# Altium footprint library Robsense_PCBLib.PcbLib: 82 footprints (part 1 of 6)
Each footprint in its own frame and in the unit in brackets; x right, y up, seen from the top. Pads: shape width x height; smd on the part's side, far side on the other; paste and mask are expansions set on the pad; w line width, h text height; cw(c..) or ccw(c..) is an arc to the next point about the centre after c.
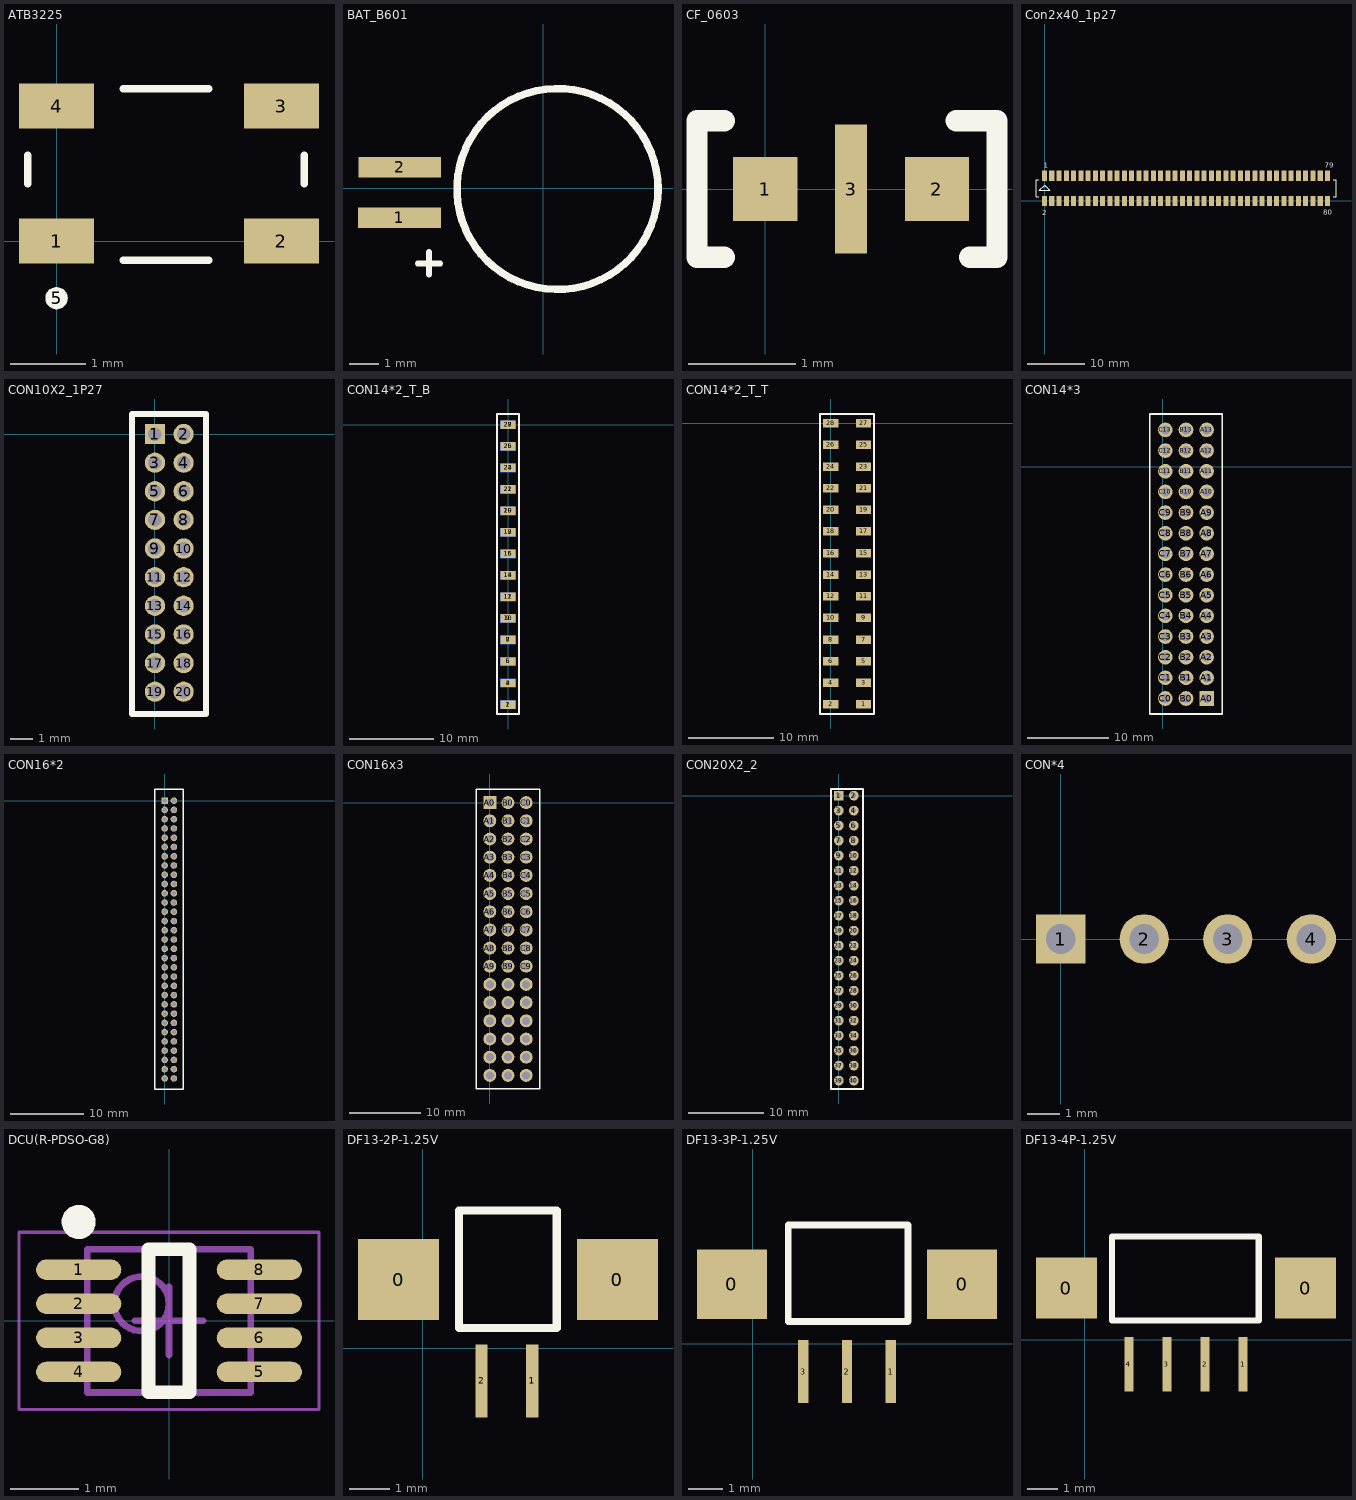
[diagram p0: the footprints below, top view; thin cyan lines are the x and y axes]

## ATB3225 [mm]
pads (5):
  rect 1x0.6 smd mask+0.08: 1(0,0) 2(3,0) 3(3,1.8) 4(0,1.8)
  round 0.3 on Top Overlay: 5(0,-0.762)
Top Overlay:
  lines w0.1: -0.381,0.762 -0.381,1.143 ; 0.889,-0.254 2.032,-0.254 ; 0.889,2.032 2.032,2.032 ; 3.302,0.762 3.302,1.143
3D body: height 1.5, standoff 0.2, extent -0.381,-0.254 3.302,2.032

## BAT_B601 [mm]
pads (2):
  rect 2.8x0.7 smd mask+0.08: 1(-4.862,-1) 2(-4.851,0.711)
Top Overlay:
  circle w0.254: c0.486,-0.025 r3.4
  lines w0.2: -4.242,-2.54 -3.48,-2.54 ; -3.861,-2.921 -3.861,-2.159

## CF_0603 [mm]
pads (3):
  rect 0.6x0.6 smd mask+0.08: 1(0,0) 2(1.6,0)
  rect 0.3x1.2 smd mask+0.08: 3(0.8,0)
Top Overlay:
  lines w0.2: -0.381,-0.635 -0.635,-0.635 -0.635,0.635 -0.381,0.635 ; 1.778,0.635 2.159,0.635 2.159,-0.635 1.905,-0.635

## Con2x40_1p27 [mm]
pads (80):
  rect 0.9x1.8 smd mask+0.08: 1(0,4.4) 2(0,0) 3(1.27,4.4) 4(1.27,0) 5(2.54,4.4) 6(2.54,0) 7(3.81,4.4) 8(3.81,0) 9(5.08,4.4) 10(5.08,0) 11(6.35,4.4) 12(6.35,0) 13(7.62,4.4) 14(7.62,0) 15(8.89,4.4) 16(8.89,0) 17(10.16,4.4) 18(10.16,0) 19(11.43,4.4) 20(11.43,0) 21(12.7,4.4) 22(12.7,0) 23(13.97,4.4) 24(13.97,0) 25(15.24,4.4) 26(15.24,0) 27(16.51,4.4) 28(16.51,0) 29(17.79,4.4) 30(17.78,0) 31(19.05,4.4) 32(19.05,0) 33(20.32,4.4) 34(20.32,0) 35(21.59,4.4) 36(21.59,0) 37(22.86,4.4) 38(22.86,0) 39(24.13,4.4) 40(24.13,0) 41(25.4,4.4) 42(25.4,0) 43(26.67,4.4) 44(26.67,0) 45(27.94,4.4) 46(27.94,0) 47(29.21,4.4) 48(29.21,0) 49(30.48,4.4) 50(30.47,0) 51(31.75,4.4) 52(31.75,0) 53(33.02,4.4) 54(33.02,0) 55(34.29,4.4) 56(34.29,0) 57(35.56,4.4) 58(35.56,0) 59(36.83,4.4) 60(36.83,0) 61(38.1,4.4) 62(38.1,0) 63(39.37,4.4) 64(39.37,0) 65(40.64,4.4) 66(40.64,0) 67(41.91,4.4) 68(41.91,0) 69(43.18,4.4) 70(43.18,0) 71(44.45,4.4) 72(44.45,0) 73(45.72,4.4) 74(45.72,0) 75(46.99,4.4) 76(46.99,0) 77(48.26,4.4) 78(48.26,0) 79(49.53,4.4) 80(49.53,0)
Top Overlay:
  lines w0.15: -1,0.7 -1.5,0.7 -1.5,3.7 -1,3.7 ; 50.53,0.7 51.03,0.7 51.03,3.7 50.53,3.7 ; -0.889,1.905 0.635,1.905 0.889,1.905 0,2.794 -0.889,1.905
  text "79" at 49.022,5.842 h0.89
  text "80" at 48.768,-2.413 h0.89
  text "2" at -0.381,-2.54 h0.89
  text "1" at -0.127,5.842 h0.89

## CON10X2_1P27 [mm]
pads (20):
  rect 0.9x0.9 hole 0.6: 1(0,0)
  round 0.9 hole 0.6: 2(1.27,0) 3(0,-1.27) 4(1.27,-1.27) 5(0,-2.54) 6(1.27,-2.54) 7(0,-3.81) 8(1.27,-3.81) 9(0,-5.08) 10(1.27,-5.08) 11(0,-6.35) 12(1.27,-6.35) 13(0,-7.62) 14(1.27,-7.62) 15(0,-8.89) 16(1.27,-8.89) 17(0,-10.16) 18(1.27,-10.16) 19(0,-11.43) 20(1.27,-11.43)
Top Overlay:
  lines w0.254: -1.016,-12.421 -1.016,0.889 -0.762,0.889 2.032,0.889 2.261,0.889 2.261,-12.421 -1.016,-12.421

## CON14*2_T_B [mm]
pads (28):
  rect 1.8x1 smd: 1(0,-33.02) 3(0,-30.48) 5(0,-27.94) 7(0,-25.4) 9(0,-22.86) 11(0,-20.32) 13(0,-17.78) 15(0,-15.24) 17(0,-12.7) 19(0,-10.16) 21(0,-7.62) 23(0,-5.08) 25(0,-2.54) 27(0,0)
  rect 1.8x1 smd far side: 2(0,-33.02) 4(0,-30.48) 6(0,-27.94) 8(0,-25.4) 10(0,-22.86) 12(0,-20.32) 14(0,-17.78) 16(0,-15.24) 18(0,-12.7) 20(0,-10.16) 22(0,-7.62) 24(0,-5.08) 26(0,-2.54) 28(0,0)
Top Overlay:
  lines w0.254: -1.295,-34.138 1.295,-34.138 1.295,1.27 -1.295,1.27 -1.295,-34.138

## CON14*2_T_T [mm]
pads (28):
  rect 1.8x1 smd: 1(3.835,-33.02) 2(0,-33.02) 3(3.835,-30.48) 4(0,-30.48) 5(3.835,-27.94) 6(0,-27.94) 7(3.835,-25.4) 8(0,-25.4) 9(3.835,-22.86) 10(0,-22.86) 11(3.835,-20.32) 12(0,-20.32) 13(3.835,-17.78) 14(0,-17.78) 15(3.835,-15.24) 16(0,-15.24) 17(3.835,-12.7) 18(0,-12.7) 19(3.835,-10.16) 20(0,-10.16) 21(3.835,-7.62) 22(0,-7.62) 23(3.835,-5.08) 24(0,-5.08) 25(3.835,-2.54) 26(0,-2.54) 27(3.835,0) 28(0,0)
Top Overlay:
  lines w0.254: -1.296,-34.138 5.08,-34.138 5.08,1.092 -1.296,1.092 -1.296,-34.138

## CON14*3 [mm]
pads (42):
  rect 1.8x1.8 hole 1.1 paste+0: A0(5.41,-28.473)
  round 1.8 hole 1.1 paste+0: A1(5.41,-25.933) A2(5.41,-23.393) A3(5.41,-20.853) A4(5.41,-18.313) A5(5.41,-15.773) A6(5.41,-13.233) A7(5.41,-10.693) A8(5.41,-8.153) A9(5.41,-5.613) A10(5.41,-3.073) A11(5.41,-0.533) A12(5.41,2.007) A13(5.41,4.547) B0(2.87,-28.473) B1(2.87,-25.933) B2(2.87,-23.393) B3(2.87,-20.853) B4(2.87,-18.313) B5(2.87,-15.773) B6(2.87,-13.233) B7(2.87,-10.693) B8(2.87,-8.153) B9(2.87,-5.613) B10(2.87,-3.073) B11(2.87,-0.533) B12(2.87,2.007) B13(2.87,4.547) C0(0.33,-28.473) C1(0.33,-25.933) C2(0.33,-23.393) C3(0.33,-20.853) C4(0.33,-18.313) C5(0.33,-15.773) C6(0.33,-13.233) C7(0.33,-10.693) C8(0.33,-8.153) C9(0.33,-5.613) C10(0.33,-3.073) C11(0.33,-0.533) C12(0.33,2.007) C13(0.33,4.547)
Top Overlay:
  lines w0.2: -1.575,-30.378 7.315,-30.378 7.315,6.502 -1.575,6.502 -1.575,-30.378

## CON16*2 [mm]
pads (62):
  rect 0.9x0.9 hole 0.65: A0(0,0)
  round 0.9 hole 0.65: A1(0,-1.27) A2(0,-2.54) A3(0,-3.81) A4(0,-5.08) A5(0,-6.35) A6(0,-7.62) A7(0,-8.89) A8(0,-10.16) A9(0,-11.43) A10(0,-12.7) A11(0,-13.97) A12(0,-15.24) A13(0,-16.51) A14(0,-17.78) A15(0,-19.05) A16(0,-20.32) A17(0,-21.59) A18(0,-22.86) A19(0,-24.13) A20(0,-25.4) A21(0,-26.67) A22(0,-27.94) A23(0,-29.21) A24(0,-30.48) A25(0,-31.75) A26(0,-33.02) A27(0,-34.29) A28(0,-35.56) A29(0,-36.83) A30(0,-38.1) B0(1.27,0) B1(1.27,-1.27) B2(1.27,-2.54) B3(1.27,-3.81) B4(1.27,-5.08) B5(1.27,-6.35) B6(1.27,-7.62) B7(1.27,-8.89) B8(1.27,-10.16) B9(1.27,-11.43) B10(1.27,-12.7) B11(1.27,-13.97) B12(1.27,-15.24) B13(1.27,-16.51) B14(1.27,-17.78) B15(1.27,-19.05) B16(1.27,-20.32) B17(1.27,-21.59) B18(1.27,-22.86) B19(1.27,-24.13) B20(1.27,-25.4) B21(1.27,-26.67) B22(1.27,-27.94) B23(1.27,-29.21) B24(1.27,-30.48) B25(1.27,-31.75) B26(1.27,-33.02) B27(1.27,-34.29) B28(1.27,-35.56) B29(1.27,-36.83) B30(1.27,-38.1)
Top Overlay:
  lines w0.2: -1.372,-39.548 2.565,-39.548 2.565,1.6 -1.372,1.6 -1.372,-39.548

## CON16x3 [mm]
pads (48):
  rect 1.8x1.8 hole 1.1: A0(0,0)
  round 1.8 hole 1.1: A1(0,-2.54) A2(0,-5.08) A3(0,-7.62) A4(0,-10.16) A5(0,-12.7) A6(0,-15.24) A7(0,-17.78) A8(0,-20.32) A9(0,-22.86) A10(0,-25.4) A11(0,-27.94) A12(0,-30.48) A13(0,-33.02) A14(0,-35.56) A15(0,-38.1) B0(2.54,0) B1(2.54,-2.54) B2(2.54,-5.08) B3(2.54,-7.62) B4(2.54,-10.16) B5(2.54,-12.7) B6(2.54,-15.24) B7(2.54,-17.78) B8(2.54,-20.32) B9(2.54,-22.86) B10(2.54,-25.4) B11(2.54,-27.94) B12(2.54,-30.48) B13(2.54,-33.02) B14(2.54,-35.56) B15(2.54,-38.1) C0(5.08,0) C1(5.08,-2.54) C2(5.08,-5.08) C3(5.08,-7.62) C4(5.08,-10.16) C5(5.08,-12.7) C6(5.08,-15.24) C7(5.08,-17.78) C8(5.08,-20.32) C9(5.08,-22.86) C10(5.08,-25.4) C11(5.08,-27.94) C12(5.08,-30.48) C13(5.08,-33.02) C14(5.08,-35.56) C15(5.08,-38.1)
Top Overlay:
  lines w0.2: -1.905,-40.005 6.985,-40.005 6.985,1.905 -1.905,1.905 -1.905,-40.005

## CON20X2_2 [mm]
pads (40):
  rect 1.3x1.3 hole 0.65: 1(0,0)
  round 1.3 hole 0.65: 2(2,0) 3(0,-2) 4(2,-2) 5(0,-4) 6(2,-4) 7(0,-6) 8(2,-6) 9(0,-8) 10(2,-8) 11(0,-10) 12(2,-10) 13(0,-12) 14(2,-12) 15(0,-14) 16(2,-14) 17(0,-16) 18(2,-16) 19(0,-18) 20(2,-18) 21(0,-20) 22(2,-20) 23(0,-22) 24(2,-22) 25(0,-24) 26(2,-24) 27(0,-26) 28(2,-26) 29(0,-28) 30(2,-28) 31(0,-30) 32(2,-30) 33(0,-32) 34(2,-32) 35(0,-34) 36(2,-34) 37(0,-36) 38(2,-36) 39(0,-38) 40(2,-38)
Top Overlay:
  lines w0.254: -1.016,-39.116 -1.016,0.889 -0.762,0.889 2.032,0.889 3.2,0.889 3.2,-39.116 -1.016,-39.116

## CON*4 [mm]
pads (4):
  rect 1.5x1.5 hole 0.9: 1(0,0)
  round 1.5 hole 0.9: 2(2.54,0) 3(5.08,0) 4(7.62,0)

## DCU(R-PDSO-G8) [mm] "TSSOP, 8-Leads, Body 2.00x2.30mm, Pitch 0.50mm, IPC Medium Density"
height 0.9
pads (8):
  oval 1.25x0.3 smd mask+0.08: 1(-1.325,0.75) 2(-1.325,0.25) 3(-1.325,-0.25) 4(-1.325,-0.75) 5(1.325,-0.75) 6(1.325,-0.25) 7(1.325,0.25) 8(1.325,0.75)
Top Overlay:
  circle w0.25: c-1.325,1.45 r0.125
  lines w0.2: -0.3,-1.05 0.3,-1.05 0.3,1.05 -0.3,1.05 -0.3,-1.05
Mechanical 13:
  circle w0.1: c-0.4,0.25 r0.4
  lines w0.1: -1.2,-1.05 1.2,-1.05 1.2,1.05 -1.2,1.05 -1.2,-1.05
Mechanical 15:
  lines w0.05: -2.2,-1.3 2.2,-1.3 2.2,1.3 -2.2,1.3 -2.2,-1.3
  lines w0.1: -0.5,0 0.5,0 ; 0,-0.5 0,0.5
3D body: height 0.9, standoff 0.1, extent -1.2,-1.05 1.2,1.05

## DF13-2P-1.25V [mm]
pads (4):
  rect 2x2 smd mask+0.08: 0(-0.6,1.7) 0(4.8,1.7)
  rect 0.3x1.8 smd mask+0.08: 1(2.7,-0.8) 2(1.45,-0.8)
Top Overlay:
  lines w0.2: 0.889,0.508 0.889,3.4 3.302,3.4 3.302,0.508 0.889,0.508

## DF13-3P-1.25V [mm]
pads (5):
  rect 2x2 smd mask+0.08: 0(-0.6,1.7) 0(6,1.7)
  rect 0.3x1.8 smd mask+0.08: 1(3.95,-0.8) 2(2.7,-0.8) 3(1.45,-0.8)
Top Overlay:
  lines w0.2: 1.016,0.635 1.016,3.4 4.445,3.4 4.445,0.635 1.016,0.635

## DF13-4P-1.25V [mm]
pads (6):
  rect 2x2 smd mask+0.08: 0(-0.6,1.7) 0(7.25,1.7)
  rect 0.3x1.8 smd mask+0.08: 1(5.2,-0.8) 2(3.95,-0.8) 3(2.7,-0.8) 4(1.45,-0.8)
Top Overlay:
  lines w0.2: 0.889,0.635 5.715,0.635 5.715,3.4 0.889,3.4 0.889,0.635